# Altium footprint library TSSOP65P760X100_HS-31N.PcbLib: 1 footprints
Each footprint in its own frame and in the unit in brackets; x right, y up, seen from the top. Pads: shape width x height; smd on the part's side, far side on the other; paste and mask are expansions set on the pad; w line width, h text height; cw(c..) or ccw(c..) is an arc to the next point about the centre after c.
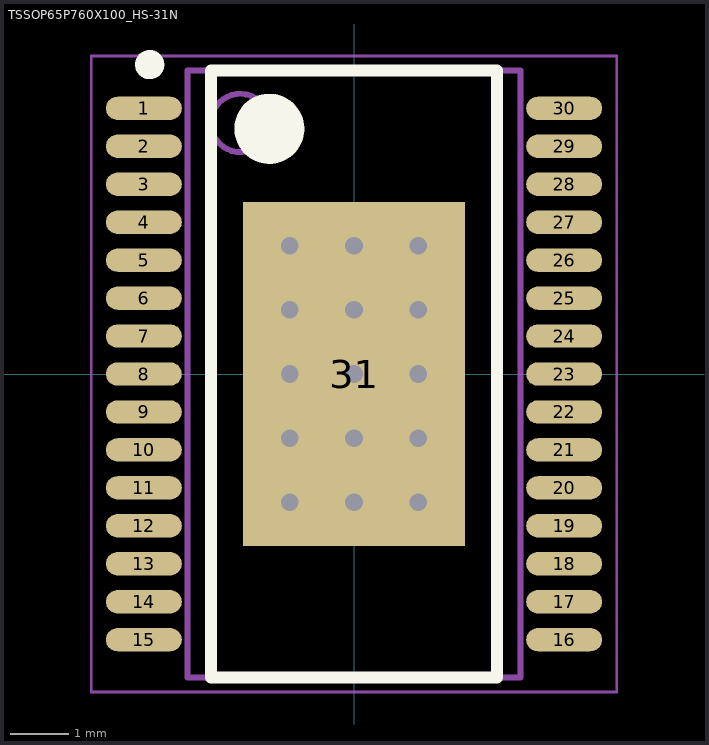
[diagram p0: the footprint, top view; thin cyan lines are the x and y axes]

## TSSOP65P760X100_HS-31N [mm] "TSSOP, 30-Leads, Body 10,18x5,60mm, Pitch 0,65mm, Thermal Pad 5,90x3,80mm, IPC Medium Density"
height 1
pads (31):
  oval 1.3x0.4 smd: 1(-3.6,4.55) 2(-3.6,3.9) 3(-3.6,3.25) 4(-3.6,2.6) 5(-3.6,1.95) 6(-3.6,1.3) 7(-3.6,0.65) 8(-3.6,0) 9(-3.6,-0.65) 10(-3.6,-1.3) 11(-3.6,-1.95) 12(-3.6,-2.6) 13(-3.6,-3.25) 14(-3.6,-3.9) 15(-3.6,-4.55) 16(3.6,-4.55) 17(3.6,-3.9) 18(3.6,-3.25) 19(3.6,-2.6) 20(3.6,-1.95) 21(3.6,-1.3) 22(3.6,-0.65) 23(3.6,0) 24(3.6,0.65) 25(3.6,1.3) 26(3.6,1.95) 27(3.6,2.6) 28(3.6,3.25) 29(3.6,3.9) 30(3.6,4.55)
  rect 3.8x5.9 smd: 31(0,0)
via 1.1,-2.2 diameter 0.65 hole 0.3
via 0,-2.2 diameter 0.65 hole 0.3
via -1.1,-2.2 diameter 0.65 hole 0.3
via 1.1,-1.1 diameter 0.65 hole 0.3
via 0,-1.1 diameter 0.65 hole 0.3
via -1.1,-1.1 diameter 0.65 hole 0.3
via 1.1,0 diameter 0.65 hole 0.3
via 0,0 diameter 0.65 hole 0.3
via -1.1,0 diameter 0.65 hole 0.3
via 1.1,1.1 diameter 0.65 hole 0.3
via 0,1.1 diameter 0.65 hole 0.3
via -1.1,1.1 diameter 0.65 hole 0.3
via 1.1,2.2 diameter 0.65 hole 0.3
via 0,2.2 diameter 0.65 hole 0.3
via -1.1,2.2 diameter 0.65 hole 0.3
Top Overlay:
  circle w0.6: c-1.45,4.2 r0.3
  circle w0.25: c-3.5,5.3 r0.125
  lines w0.2: -2.45,-5.2 2.45,-5.2 2.45,5.2 -2.45,5.2 -2.45,-5.2
13:
  circle w0.1: c-1.95,4.3 r0.5
  lines w0.1: -2.85,-5.2 2.85,-5.2 2.85,5.2 -2.85,5.2 -2.85,-5.2
Mechanical 15:
  lines w0.05: -4.5,-5.45 4.5,-5.45 4.5,5.45 -4.5,5.45 -4.5,-5.45
  lines w0.1: -0.5,0 0.5,0 ; 0,-0.5 0,0.5
3D body "TSSOP65P760X100_HS-31N.step": height 1, standoff 0, extent -3.8,-5.2 3.8,5.2